# Altium footprint library footprint_hall_crossboard_1_1_library.PcbLib: 95 footprints (part 1 of 7)
Each footprint in its own frame and in the unit in brackets; x right, y up, seen from the top. Pads: shape width x height; smd on the part's side, far side on the other; paste and mask are expansions set on the pad; w line width, h text height; cw(c..) or ccw(c..) is an arc to the next point about the centre after c.
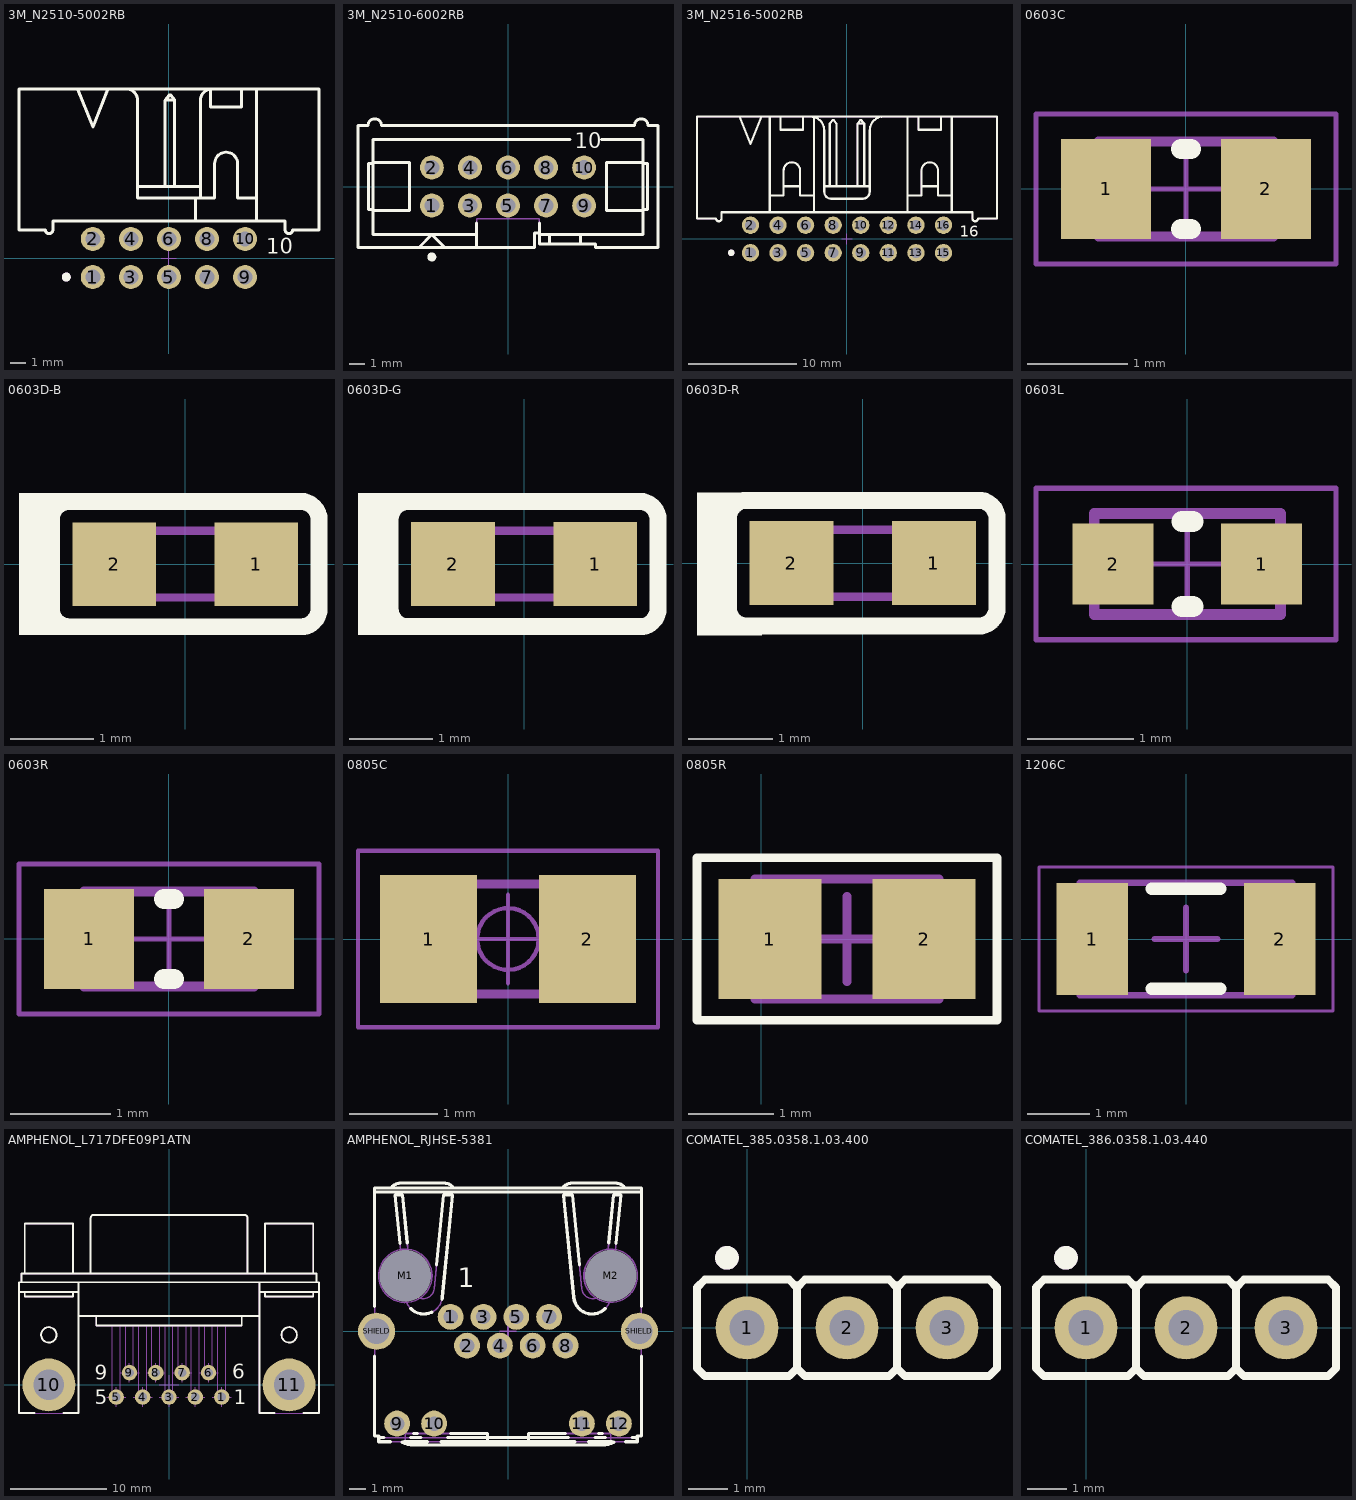
[diagram p0: the footprints below, top view; thin cyan lines are the x and y axes]

## 3M_N2510-5002RB [mm] "10 Contacts - Right Angle .100\" x .100\" Low Profile Four-Wall Header"
height 8.59
pads (10):
  round 1.6 hole 1: 1(-5.08,-1.27) 2(-5.08,1.27) 3(-2.54,-1.27) 4(-2.54,1.27) 5(0,-1.27) 6(0,1.27) 7(2.54,-1.27) 8(2.54,1.27) 9(5.08,-1.27) 10(5.08,1.27)
Top Overlay:
  circle w0.3: c-6.85,-1.27 r0.15
  lines w0.2: -6.093,11.28 -5.077,8.74 -4.061,11.28 ; -2.854,11.28 cw(c-2.854,10.518) -2.092,10.518 -2.092,4.015 2.099,4.015 2.099,10.518 ; -2.092,4.76 2.092,4.76 ; -0.249,4.76 -0.249,10.526 0.012,10.86 0.125,10.86 0.38,10.534 -0.243,10.534 ; 0.38,4.76 0.38,10.526 ; 1.781,2.466 1.781,4.015 3.051,4.015 3.051,6.301 cw(c3.813,6.301) 4.575,6.301 4.575,4.015 5.845,4.015 ; 2.099,10.518 cw(c2.861,10.518) 2.772,11.274 ; 2.772,11.28 2.772,10.06 4.855,10.06 4.855,11.28 ; 5.845,2.466 5.845,11.28 ; -10.004,1.882 -8.252,1.882 ccw(c-7.998,1.882) -7.744,1.882 -7.744,2.466 7.75,2.466 7.75,1.882 ccw(c8.004,1.882) 8.258,1.882 10.011,1.882 10.011,11.28 -10.004,11.28 -10.004,1.882
  text "10" at 6.5,0.3 h1.02
Mechanical 14:
  circle w0.3: c-6.85,-1.27 r0.15
  lines w0.1: -6.093,11.28 -5.077,8.74 -4.061,11.28 ; -2.854,11.28 cw(c-2.854,10.518) -2.092,10.518 -2.092,4.015 2.099,4.015 2.099,10.518 ; -2.092,4.76 2.092,4.76 ; -0.249,4.76 -0.249,10.526 0.012,10.86 0.125,10.86 0.38,10.534 -0.243,10.534 ; 0.38,4.76 0.38,10.526 ; 1.781,2.466 1.781,4.015 3.051,4.015 3.051,6.301 cw(c3.813,6.301) 4.575,6.301 4.575,4.015 5.845,4.015 ; 2.099,10.518 cw(c2.861,10.518) 2.772,11.274 ; 2.772,11.28 2.772,10.06 4.855,10.06 4.855,11.28 ; 5.845,2.466 5.845,11.28 ; -10.004,1.882 -8.252,1.882 ccw(c-7.998,1.882) -7.744,1.882 -7.744,2.466 7.75,2.466 7.75,1.882 ccw(c8.004,1.882) 8.258,1.882 10.011,1.882 10.011,11.28 -10.004,11.28 -10.004,1.882
  text "10" at 6.5,0.3 h1.02
Mechanical 15:
  lines w0.05: -0.5,0 0.5,0 ; 0,-0.5 0,0.5
3D body "3M_N2510-5002RB.stp": height 8.64, standoff -3.98, extent -10.004,-1.587 10.011,11.267

## 3M_N2510-6002RB [mm] "10 Contacts - Straight .100\" x .100\" Low Profile Four-Wall Header"
height 10.03
pads (10):
  round 1.6 hole 1: 1(-5.08,-1.27) 2(-5.08,1.27) 3(-2.54,-1.27) 4(-2.54,1.27) 5(0,-1.27) 6(0,1.27) 7(2.54,-1.27) 8(2.54,1.27) 9(5.08,-1.27) 10(5.08,1.27)
Top Overlay:
  circle w0.3: c-5.08,-4.699 r0.15
  lines w0.2: -8.992,-1.603 -6.579,-1.603 -6.579,1.603 -8.992,1.603 ; -8.992,-1.524 -9.296,-1.524 -9.296,1.524 -8.992,1.524 ; -5.944,-4.064 -5.08,-3.2 -4.216,-4.064 ; -2.096,-4.064 -2.096,-2.438 ; -2.096,-3.2 -8.992,-3.2 -8.992,3.15 4.128,3.15 ; 2.095,-3.2 8.992,-3.2 8.992,3.15 6.223,3.15 ; 2.095,-3.102 1.778,-3.102 1.778,-4.064 -10.008,-4.064 -10.008,4.064 -9.347,4.064 cw(c-8.89,4.064) -8.433,4.064 8.433,4.064 cw(c8.89,4.064) 9.347,4.064 10.008,4.064 10.008,-4.064 5.842,-4.064 5.842,-3.835 2.095,-3.835 2.095,-2.438 ; 2.769,-3.835 2.769,-3.2 ; 4.851,-3.835 4.851,-3.2 ; 8.992,-1.603 6.579,-1.603 6.579,1.603 8.992,1.603 ; 8.992,-1.524 9.296,-1.524 9.296,1.524 8.992,1.524
  text "10" at 4.445,2.54 h1.02
Mechanical 14:
  lines w0.1: -8.992,-1.603 -6.579,-1.603 -6.579,1.603 -8.992,1.603 ; -8.992,-1.524 -9.296,-1.524 -9.296,1.524 -8.992,1.524 ; -5.944,-4.064 -5.08,-3.2 -4.216,-4.064 ; -2.096,-4.064 -2.096,-2.159 2.095,-2.159 2.095,-3.835 5.842,-3.835 5.842,-4.064 10.008,-4.064 10.008,4.064 9.347,4.064 ccw(c8.89,4.064) 8.433,4.064 -8.433,4.064 ccw(c-8.89,4.064) -9.347,4.064 -10.008,4.064 -10.008,-4.064 1.778,-4.064 1.778,-3.102 2.095,-3.102 ; -2.096,-3.2 -8.992,-3.2 -8.992,3.15 4.128,3.15 ; 2.095,-3.2 8.992,-3.2 8.992,3.15 6.223,3.15 ; 2.769,-3.835 2.769,-3.2 ; 4.851,-3.835 4.851,-3.2 ; 8.992,-1.603 6.579,-1.603 6.579,1.603 8.992,1.603 ; 8.992,-1.524 9.296,-1.524 9.296,1.524 8.992,1.524
  text "10" at 4.445,2.54 h1.02
3D body "3M_N2510-6002RB.stp": height 9.65, standoff -2.59, extent -10.008,-4.064 10.008,4.572

## 3M_N2516-5002RB [mm] "16 Contacts - Right Angle .100\" x .100\" Low Profile Four-Wall Header"
height 8.59
pads (16):
  round 1.6 hole 1: 1(-8.89,-1.27) 2(-8.89,1.27) 3(-6.35,-1.27) 4(-6.35,1.27) 5(-3.81,-1.27) 6(-3.81,1.27) 7(-1.27,-1.27) 8(-1.27,1.27) 9(1.27,-1.27) 10(1.27,1.27) 11(3.81,-1.27) 12(3.81,1.27) 13(6.35,-1.27) 14(6.35,1.27) 15(8.89,-1.27) 16(8.89,1.27)
Top Overlay:
  circle w0.3: c-10.66,-1.27 r0.15
  lines w0.2: -9.903,11.28 -8.887,8.74 -7.871,11.28 ; -7.109,2.466 -7.109,11.28 ; -7.109,4.015 -5.839,4.015 -5.839,6.301 cw(c-5.077,6.301) -4.315,6.301 -4.315,4.015 -3.045,4.015 ; -6.118,11.28 -6.118,10.06 -4.035,10.06 -4.035,11.28 ; -5.839,4.854 -4.315,4.853 ; -3.362,11.28 cw(c-3.362,10.01) -2.092,10.01 -2.092,4.345 ccw(c-1.457,4.345) -1.457,3.71 ; -3.045,2.466 -3.045,11.239 ; -2.092,4.853 2.099,4.853 ; -1.584,4.853 -1.584,10.619 -1.323,10.954 -1.21,10.954 -0.956,10.628 -0.956,4.853 ; -1.457,3.71 1.464,3.71 ; 0.956,4.853 0.962,10.628 ; 1.464,3.71 ccw(c1.464,4.345) 2.099,4.345 2.099,10.01 ; 1.584,4.853 1.584,10.619 ; 2.099,10.01 cw(c3.369,10.01) 3.369,11.28 ; 5.591,2.466 5.591,11.28 ; 5.591,4.015 6.861,4.015 6.861,6.301 cw(c7.623,6.301) 8.385,6.301 8.385,4.015 9.655,4.015 ; 6.582,11.28 6.582,10.06 8.665,10.06 8.665,11.28 ; 6.861,4.853 8.385,4.853 ; 9.655,2.466 9.655,11.28 ; 0.962,10.628 1.217,10.954 1.33,10.954 1.584,10.619 ; 0.962,10.628 1.584,10.619 ; -13.814,1.882 -13.814,11.28 13.821,11.28 13.821,1.882 12.068,1.882 cw(c11.814,1.882) 11.56,1.882 11.56,2.466 -11.554,2.466 -11.554,1.882 cw(c-11.808,1.882) -12.062,1.882 -13.814,1.882
  text "16" at 10.375,0.207 h1.02
Mechanical 14:
  circle w0.3: c-10.66,-1.27 r0.15
  lines w0.1: -9.903,11.28 -8.887,8.74 -7.871,11.28 ; -7.109,2.466 -7.109,11.28 ; -7.109,4.015 -5.839,4.015 -5.839,6.301 cw(c-5.077,6.301) -4.315,6.301 -4.315,4.015 -3.045,4.015 ; -6.118,11.28 -6.118,10.06 -4.035,10.06 -4.035,11.28 ; -5.839,4.854 -4.315,4.853 ; -3.362,11.28 cw(c-3.362,10.01) -2.092,10.01 -2.092,4.345 ccw(c-1.457,4.345) -1.457,3.71 ; -3.045,2.466 -3.045,11.239 ; -2.092,4.853 2.099,4.853 ; -1.584,4.853 -1.584,10.619 -1.323,10.954 -1.21,10.954 -0.956,10.628 -0.956,4.853 ; -1.457,3.71 1.464,3.71 ; 0.956,4.853 0.962,10.628 ; 1.464,3.71 ccw(c1.464,4.345) 2.099,4.345 2.099,10.01 ; 1.584,4.853 1.584,10.619 ; 2.099,10.01 cw(c3.369,10.01) 3.369,11.28 ; 5.591,2.466 5.591,11.28 ; 5.591,4.015 6.861,4.015 6.861,6.301 cw(c7.623,6.301) 8.385,6.301 8.385,4.015 9.655,4.015 ; 6.582,11.28 6.582,10.06 8.665,10.06 8.665,11.28 ; 6.861,4.853 8.385,4.853 ; 9.655,2.466 9.655,11.28 ; 0.962,10.628 1.217,10.954 1.33,10.954 1.584,10.619 ; 0.962,10.628 1.584,10.619 ; -13.814,1.882 -13.814,11.28 13.821,11.28 13.821,1.882 12.068,1.882 cw(c11.814,1.882) 11.56,1.882 11.56,2.466 -11.554,2.466 -11.554,1.882 cw(c-11.808,1.882) -12.062,1.882 -13.814,1.882
  text "16" at 10.375,0.207 h1.02
Mechanical 15:
  lines w0.05: -0.5,0 0.5,0 ; 0,-0.5 0,0.5
3D body "3M_N2516-5002RB.stp": height 8.64, standoff -3.98, extent -13.814,-1.587 13.821,11.267

## 0603C [mm] "Chip Capacitor, Body 1.6x0.8mm, Height 1.0mm, IPC Medium Density"
height 1
pads (2):
  rect 0.9x1 smd: 1(-0.8,0) 2(0.8,0)
Top Overlay:
  lines w0.2: -0.05,-0.4 0.05,-0.4 ; -0.05,0.4 0.05,0.4
Mechanical 13:
  lines w0.1: -0.875,-0.475 0.875,-0.475 0.875,0.475 -0.875,0.475 -0.875,-0.475
Mechanical 15:
  lines w0.05: -0.475,0 0.475,0 ; 0,-0.475 0,0.475 ; -1.5,-0.75 1.5,-0.75 1.5,0.75 -1.5,0.75 -1.5,-0.75
3D body: height 1, standoff 0, extent 0.525,-0.475 0.875,0.475
3D body: height 1, standoff 0, extent -0.875,-0.475 -0.525,0.475
3D body: height 1, standoff 0, extent -0.525,-0.475 0.525,0.475

## 0603D-B [mm] "LED, SMT, Body 1.6 x 0.8 mm, 0.25mm Thickness"
height 0.25
pads (2):
  rect 1x1 smd paste+0 mask+0: 1(0.85,0) 2(-0.85,0)
Top Overlay:
  rectangle: -1.797,-0.849 -1.213,-0.684
  rectangle: -1.988,-0.849 -1.531,0.852
  rectangle: -1.797,0.667 -1.147,0.852
  lines w0.203: -1.602,-0.533 ccw(c-1.386,-0.533) -1.386,-0.749 1.386,-0.749 ccw(c1.386,-0.533) 1.602,-0.533 1.602,0.533 ccw(c1.386,0.533) 1.386,0.749 -1.386,0.749 ccw(c-1.386,0.533) -1.602,0.533 -1.602,-0.533
Mechanical 7:
  lines w0.1: -0.8,-0.4 0.8,-0.4 0.8,0.4 -0.8,0.4 -0.8,-0.4
3D body: height 0.25, standoff 0.1, extent -0.6,-0.4 0.6,0.4
3D body: height 0.2, standoff 0.15, extent -0.254,-0.254 0.254,0.254
3D body: height 0.1, standoff 0, extent -0.8,-0.4 0.8,0.4

## 0603D-G [mm] "LED, SMT, Body 1.6 x 0.8 mm, 0.25mm Thickness"
height 0.25
pads (2):
  rect 1x1 smd paste+0 mask+0: 1(0.85,0) 2(-0.85,0)
Top Overlay:
  rectangle: -1.794,-0.85 -1.21,-0.685
  rectangle: -1.985,-0.85 -1.528,0.852
  rectangle: -1.794,0.666 -1.144,0.852
  lines w0.203: -1.602,-0.533 ccw(c-1.386,-0.533) -1.386,-0.749 1.386,-0.749 ccw(c1.386,-0.533) 1.602,-0.533 1.602,0.533 ccw(c1.386,0.533) 1.386,0.749 -1.386,0.749 ccw(c-1.386,0.533) -1.602,0.533 -1.602,-0.533
Mechanical 7:
  lines w0.1: -0.8,-0.4 0.8,-0.4 0.8,0.4 -0.8,0.4 -0.8,-0.4
3D body: height 0.25, standoff 0.1, extent -0.6,-0.4 0.6,0.4
3D body: height 0.2, standoff 0.15, extent -0.254,-0.254 0.254,0.254
3D body: height 0.1, standoff 0, extent -0.8,-0.4 0.8,0.4

## 0603D-R [mm] "LED, SMT, Body 1.6 x 0.8 mm, 0.25mm Thickness"
height 0.25
pads (2):
  rect 1x1 smd paste+0 mask+0: 1(0.85,0) 2(-0.85,0)
Top Overlay:
  rectangle: -1.785,0.656 -1.134,0.841
  rectangle: -1.975,-0.861 -1.518,0.841
  rectangle: -1.785,-0.861 -1.2,-0.696
  lines w0.203: -1.602,-0.533 ccw(c-1.386,-0.533) -1.386,-0.749 1.386,-0.749 ccw(c1.386,-0.533) 1.602,-0.533 1.602,0.533 ccw(c1.386,0.533) 1.386,0.749 -1.386,0.749 ccw(c-1.386,0.533) -1.602,0.533 -1.602,-0.533
Mechanical 7:
  lines w0.1: -0.8,-0.4 -0.8,0.4 0.8,0.4 0.8,-0.4 -0.8,-0.4
3D body: height 0.1, standoff 0, extent -0.8,-0.4 0.8,0.4
3D body: height 0.2, standoff 0.15, extent -0.254,-0.254 0.254,0.254
3D body: height 0.25, standoff 0.1, extent -0.6,-0.4 0.6,0.4

## 0603L [mil] "Bead 0603L"
height 39.37
pads (2):
  rect 30x30 smd: 1(27.5,0) 2(-27.5,0)
Top Overlay:
  lines w7.87: -1.97,-15.74 1.97,-15.74 -1.97,-15.75 ; -1.97,15.75 1.97,15.75 -1.97,15.75
Mechanical 13:
  lines w3.94: -34.45,-18.7 -34.45,18.7 34.45,18.7 34.45,-18.7 -34.45,-18.7
Mechanical 15:
  lines w1.97: -18.7,0 18.7,0 ; 0,-18.7 0,18.7 ; -56,-28 55,-28 55,28 -56,28 -56,-28
3D body: height 23.62, standoff 0, extent -20.67,-18.7 20.67,18.7
3D body: height 23.62, standoff 0, extent -34.45,-18.7 -20.67,18.7
3D body: height 23.62, standoff 0, extent 20.67,-18.7 34.45,18.7

## 0603R [mm] "Chip Resistor, Body 1.6x0.8mm, IPC Medium Density"
height 0.6
pads (2):
  rect 0.9x1 smd: 1(-0.8,0) 2(0.8,0)
Top Overlay:
  lines w0.2: -0.05,-0.4 0.05,-0.4 ; -0.05,0.4 0.05,0.4
Mechanical 13:
  lines w0.1: -0.85,-0.475 -0.85,0.475 0.85,0.475 0.85,-0.475 -0.85,-0.475
Mechanical 15:
  lines w0.05: -0.475,0 0.475,0 ; 0,-0.475 0,0.475 ; -1.5,-0.75 -1.5,0.75 1.5,0.75 1.5,-0.75 -1.5,-0.75
3D body: height 0.6, standoff 0, extent 0.581,-0.474 0.85,0.475
3D body: height 0.6, standoff 0, extent -0.58,-0.474 0.581,0.475
3D body: height 0.6, standoff 0, extent -0.849,-0.474 -0.58,0.475

## 0805C [mm] "Chip Capacitor, Body 2.0x1.25mm, IPC Medium Density"
height 0.9
pads (2):
  rect 1.1x1.45 smd: 1(-0.9,0) 2(0.9,0)
Mechanical 14:
  lines w0.1: -1,-0.625 -1,0.625 1,0.625 1,-0.625 -1,-0.625
Mechanical 15:
  circle w0.05: c0,0 r0.35
  lines w0.05: -0.5,0 0.5,0 ; 0,-0.5 0,0.5 ; -1.7,-1 -1.7,1 1.7,1 1.7,-1 -1.7,-1
3D body "CAPC2012X90N.stp": height 0.9, standoff 0, extent -1.05,-0.675 1.05,0.675

## 0805R [mm]
pads (2):
  rect 1.2x1.4 smd: 1(0.102,0.002) 2(1.902,0.002)
Top Overlay:
  lines w0.1: -0.748,-0.948 -0.748,0.952 2.752,0.952 2.752,-0.948 -0.748,-0.948
Mechanical 13:
  lines w0.1: -0.073,-0.698 2.077,-0.698 2.077,0.702 -0.073,0.702 -0.073,-0.698
Mechanical 15:
  lines w0.1: 0.502,0.002 1.502,0.002 ; 1.002,-0.498 1.002,0.502
3D body "RES0805.STEP": height 0.51, standoff 0, extent 0,-0.627 2.004,0.627

## 1206C [mm] "Chip Capacitor, Body 3.2x1.6mm, Height 1mm, IPC Medium Density"
height 1
pads (2):
  rect 1.15x1.8 smd: 1(-1.5,0) 2(1.5,0)
Top Overlay:
  lines w0.2: -0.55,-0.8 0.55,-0.8 ; -0.55,0.8 0.55,0.8
Mechanical 13:
  lines w0.1: -1.7,-0.9 -1.7,0.9 1.7,0.9 1.7,-0.9 -1.7,-0.9
Mechanical 15:
  lines w0.05: -2.35,-1.15 -2.35,1.15 2.35,1.15 2.35,-1.15 -2.35,-1.15
  lines w0.1: -0.5,0 0.5,0 ; 0,-0.5 0,0.5
3D body: height 1, standoff 0, extent -1.2,-0.9 1.2,0.9
3D body: height 1, standoff 0, extent -1.7,-0.9 -1.2,0.9
3D body: height 1, standoff 0, extent 1.2,-0.9 1.7,0.9

## AMPHENOL_L717DFE09P1ATN [mm] "Right Angled D-Sub 9 Male Contacts with Metal Bracket and Front Female Screwlock (UNC4-40)"
height 13.4
pads (11):
  round 1.6 hole 0.9: 1(5.48,-1.27) 2(2.74,-1.27) 3(0,-1.27) 4(-2.74,-1.27) 5(-5.48,-1.27) 6(4.11,1.27) 7(1.37,1.27) 8(-1.37,1.27) 9(-4.11,1.27)
  round 5.5 hole 3.2: 10(-12.495,0) 11(12.495,0)
Top Overlay:
  circle w0.2: c-12.5,5.2 r0.8
  circle w0.2: c12.5,5.2 r0.8
  lines w0.2: -15.35,10.67 -15.35,11.57 15.35,11.57 15.35,10.67 ; -15,9.67 -15,9.17 -10,9.17 -10,9.67 ; -15,11.57 -15,16.77 -10,16.77 -10,11.57 ; -14,-2.93 -15.6,-2.93 -15.6,10.67 15.6,10.67 15.6,-2.93 14,-2.93 ; -11,-2.93 -9.4,-2.93 -9.4,10.67 ; -9.539,9.67 -15.6,9.67 -9.4,9.67 ; -9.4,7.17 9.4,7.17 ; -8.142,11.57 -8.142,17.37 cw(c-7.842,17.37) -7.842,17.67 7.861,17.67 cw(c7.861,17.37) 8.161,17.37 8.161,11.57 ; -7.57,7.17 -7.57,6.17 7.57,6.17 7.57,7.17 ; 9.4,9.67 15.6,9.67 ; 9.4,10.67 9.4,-2.93 11,-2.93 ; 10,9.67 10,9.17 15,9.17 15,9.67 ; 10,11.57 10,16.77 15,16.77 15,11.57
  text "6" at 6.604,0.635 h1.5
  text "5" at -7.747,-2.032 h1.5
  text "1" at 6.731,-2.032 h1.5
  text "9" at -7.747,0.508 h1.5
Mechanical 8:
  lines w0.1: -13.5,0 -12.5,0 ; -12.5,-1 -12.5,0 ; -12.5,1 -12.5,0 ; -11.5,0 -12.5,0 ; -6.48,-1.27 -5.48,-1.27 ; -5.48,-2.27 -5.48,-1.27 ; -5.48,-0.27 -5.48,-1.27 ; -5.11,1.27 -4.11,1.27 ; -4.48,-1.27 -5.48,-1.27 ; -4.11,0.27 -4.11,1.27 ; -4.11,2.27 -4.11,1.27 ; -3.74,-1.27 -2.74,-1.27 ; -3.11,1.27 -4.11,1.27 ; -2.74,-2.27 -2.74,-1.27 ; -2.74,-0.27 -2.74,-1.27 ; -2.37,1.27 -1.37,1.27 ; -1.74,-1.27 -2.74,-1.27 ; -1.37,0.27 -1.37,1.27 ; -1.37,2.27 -1.37,1.27 ; -1,-1.27 0,-1.27 ; -1,0 0,0 ; -0.37,1.27 -1.37,1.27 ; 0,-2.27 0,-1.27 ; 0,-1 0,0 ; 0,-0.27 0,-1.27 ; 0,1 0,0 ; 0.37,1.27 1.37,1.27 ; 1,-1.27 0,-1.27 ; 1,0 0,0 ; 1.37,0.27 1.37,1.27 ; 1.37,2.27 1.37,1.27 ; 1.74,-1.27 2.74,-1.27 ; 2.37,1.27 1.37,1.27 ; 2.74,-2.27 2.74,-1.27 ; 2.74,-0.27 2.74,-1.27 ; 3.11,1.27 4.11,1.27 ; 3.74,-1.27 2.74,-1.27 ; 4.11,0.27 4.11,1.27 ; 4.11,2.27 4.11,1.27 ; 4.48,-1.27 5.48,-1.27 ; 5.11,1.27 4.11,1.27 ; 5.48,-2.27 5.48,-1.27 ; 5.48,-0.27 5.48,-1.27 ; 6.48,-1.27 5.48,-1.27 ; 11.5,0 12.5,0 ; 12.5,-1 12.5,0 ; 12.5,1 12.5,0 ; 13.5,0 12.5,0
Mechanical 14:
  circle w0.1: c-12.5,0 r1.6
  circle w0.1: c-12.5,5.2 r0.8
  circle w0.1: c12.5,5.2 r0.8
  circle w0.1: c12.5,0 r1.6
  lines w0.1: -15.35,10.67 -15.35,11.57 15.35,11.57 15.35,10.67 ; -15,9.67 -15,9.17 -10,9.17 -10,9.67 ; -15,11.57 -15,16.77 -10,16.77 -10,11.57 ; -9.539,9.67 -15.6,9.67 -9.4,9.67 ; -9.4,7.17 9.4,7.17 ; -9.4,10.67 -9.4,-2.93 -15.6,-2.93 -15.6,10.67 15.6,10.67 15.6,-2.93 9.4,-2.93 9.4,10.67 ; -8.142,11.57 -8.142,17.37 cw(c-7.842,17.37) -7.842,17.67 7.861,17.67 cw(c7.861,17.37) 8.161,17.37 8.161,11.57 ; -7.57,7.17 -7.57,6.17 7.57,6.17 7.57,7.17 ; -5.88,6.17 -5.88,-1.27 ccw(c-5.48,-1.27) -5.08,-1.27 -5.08,6.17 ; -4.51,6.17 -4.51,1.27 ccw(c-4.11,1.27) -3.71,1.27 -3.71,6.17 ; -3.14,6.17 -3.14,-1.27 ccw(c-2.74,-1.27) -2.34,-1.27 -2.34,6.17 ; -1.77,6.17 -1.77,1.27 ccw(c-1.37,1.27) -0.97,1.27 -0.97,6.17 ; -0.4,6.17 -0.4,-1.27 ccw(c0,-1.27) 0.4,-1.27 0.4,6.17 ; 0.97,6.17 0.97,1.27 ccw(c1.37,1.27) 1.77,1.27 1.77,6.17 ; 2.34,6.17 2.34,-1.27 ccw(c2.74,-1.27) 3.14,-1.27 3.14,6.17 ; 3.71,6.17 3.71,1.27 ccw(c4.11,1.27) 4.51,1.27 4.51,6.17 ; 5.08,6.17 5.08,-1.27 ccw(c5.48,-1.27) 5.88,-1.27 5.88,6.17 ; 9.4,9.67 15.6,9.67 ; 10,9.67 10,9.17 15,9.17 15,9.67 ; 10,11.57 10,16.77 15,16.77 15,11.57
3D body "AMPHENOL_L717DFE09P1ATN.stp": height 13.45, standoff -3.95, extent -15.6,-2.93 15.6,17.67

## AMPHENOL_RJHSE-5381 [mm] "1 Port, 8 Positions, CAT5 RJ45 Modular Connector With Yellow And Green LEDs"
height 13.46
pads (16):
  round 1.6 hole 0.9: 1(-3.554,0.886) 2(-2.538,-0.894) 3(-1.522,0.886) 4(-0.506,-0.894) 5(0.51,0.886) 6(1.526,-0.894) 7(2.542,0.886) 8(3.558,-0.894) 9(-6.862,-5.714) 10(-4.572,-5.714) 11(4.568,-5.714) 12(6.858,-5.714)
  round 1 hole 3.2 unplated mask+1.1: M1(-6.352,3.426) M2(6.348,3.426)
  round 2.3 hole 1.6: SHIELD(-8.132,-0.004) SHIELD(8.128,-0.004)
Top Overlay:
  lines w0.2: -8.257,-1.549 -8.257,-6.478 -8.003,-6.478 -8.003,-6.834 -7.293,-6.834 ; -8.257,1.541 -8.257,8.863 8.253,8.863 8.253,1.541 ; -8.257,8.609 8.253,8.609 ; -8.003,-6.58 -7.693,-6.58 ; -7.242,8.863 cw(c-6.621,8.379) -6.621,9.166 -3.979,9.166 cw(c-3.979,8.379) -3.358,8.863 ; -6.688,5.449 -6.987,8.432 -6.53,8.432 -6.233,5.473 ; -6.54,-6.87 ccw(c-5.844,-5.507) -5.844,-7.037 5.84,-7.037 ccw(c5.84,-5.507) 6.536,-6.87 ; -6.431,-6.834 -5.003,-6.834 ; -6.031,-6.58 -5.403,-6.58 ; -6.022,1.403 ccw(c-5.209,2.214) -4.719,1.176 ; -5.83,-6.326 -5.604,-6.326 ; -4.422,4.118 -3.99,8.432 -3.431,8.432 -4.066,2.1 cw(c-5.209,2.214) -4.089,1.961 ; -4.141,-6.834 4.137,-6.834 ; -3.741,-6.58 3.737,-6.58 ; -3.54,-6.326 -1.272,-6.326 -1.272,-6.834 ; 1.268,-6.834 1.268,-6.326 3.536,-6.326 ; 3.366,8.863 cw(c3.986,8.379) 3.986,9.166 6.628,9.166 cw(c6.628,8.379) 7.249,8.863 ; 4.418,4.118 3.986,8.432 3.427,8.432 4.062,2.1 ccw(c5.205,2.214) 6.018,1.403 ; 4.999,-6.834 6.427,-6.834 ; 5.399,-6.58 6.027,-6.58 ; 5.6,-6.326 5.826,-6.326 ; 6.229,5.473 6.526,8.432 6.983,8.432 6.684,5.449 ; 7.289,-6.834 7.999,-6.834 7.999,-6.478 8.253,-6.478 8.253,-1.549 ; 7.689,-6.58 7.999,-6.58
  text "1" at -3.12,2.725 h1.2
Mechanical 8:
  circle w0.1: c6.348,3.426 r1.65
  circle w0.1: c-6.352,3.426 r1.65
  circle w0.1: c8.128,-0.004 r0.8
  circle w0.1: c-8.132,-0.004 r0.8
  circle w0.1: c3.558,-0.894 r0.45
  circle w0.1: c1.526,-0.894 r0.45
  circle w0.1: c-0.506,-0.894 r0.45
  circle w0.1: c-2.538,-0.894 r0.45
  circle w0.1: c-3.554,0.886 r0.45
  circle w0.1: c-1.522,0.886 r0.45
  circle w0.1: c0.51,0.886 r0.45
  circle w0.1: c2.542,0.886 r0.45
  lines w0.1: -8.632,-0.004 -8.132,-0.004 ; -8.132,-0.504 -8.132,-0.004 ; -8.132,0.496 -8.132,-0.004 ; -7.632,-0.004 -8.132,-0.004 ; -7.362,-5.714 -6.862,-5.714 ; -6.862,-6.214 -6.862,-5.714 ; -6.862,-5.214 -6.862,-5.714 ; -6.852,3.426 -6.352,3.426 ; -6.362,-5.714 -6.862,-5.714 ; -6.352,2.926 -6.352,3.426 ; -6.352,3.926 -6.352,3.426 ; -5.852,3.426 -6.352,3.426 ; -5.072,-5.714 -4.572,-5.714 ; -4.572,-6.214 -4.572,-5.714 ; -4.572,-5.214 -4.572,-5.714 ; -4.072,-5.714 -4.572,-5.714 ; -4.054,0.886 -3.554,0.886 ; -3.554,0.386 -3.554,0.886 ; -3.554,1.386 -3.554,0.886 ; -3.054,0.886 -3.554,0.886 ; -3.038,-0.894 -2.538,-0.894 ; -2.538,-1.394 -2.538,-0.894 ; -2.538,-0.394 -2.538,-0.894 ; -2.038,-0.894 -2.538,-0.894 ; -2.022,0.886 -1.522,0.886 ; -1.522,0.386 -1.522,0.886 ; -1.522,1.386 -1.522,0.886 ; -1.022,0.886 -1.522,0.886 ; -1.006,-0.894 -0.506,-0.894 ; -0.506,-1.394 -0.506,-0.894 ; -0.506,-0.394 -0.506,-0.894 ; -0.5,0 0,0 ; -0.006,-0.894 -0.506,-0.894 ; 0,-0.5 0,0 ; 0,0.5 0,0 ; 0.01,0.886 0.51,0.886 ; 0.5,0 0,0 ; 0.51,0.386 0.51,0.886 ; 0.51,1.386 0.51,0.886 ; 1.01,0.886 0.51,0.886 ; 1.026,-0.894 1.526,-0.894 ; 1.526,-1.394 1.526,-0.894 ; 1.526,-0.394 1.526,-0.894 ; 2.026,-0.894 1.526,-0.894 ; 2.042,0.886 2.542,0.886 ; 2.542,0.386 2.542,0.886 ; 2.542,1.386 2.542,0.886 ; 3.042,0.886 2.542,0.886 ; 3.058,-0.894 3.558,-0.894 ; 3.558,-1.394 3.558,-0.894 ; 3.558,-0.394 3.558,-0.894 ; 4.058,-0.894 3.558,-0.894 ; 4.068,-5.714 4.568,-5.714 ; 4.568,-6.214 4.568,-5.714 ; 4.568,-5.214 4.568,-5.714 ; 5.068,-5.714 4.568,-5.714 ; 5.848,3.426 6.348,3.426 ; 6.348,2.926 6.348,3.426 ; 6.348,3.926 6.348,3.426 ; 6.358,-5.714 6.858,-5.714 ; 6.848,3.426 6.348,3.426 ; 6.858,-6.214 6.858,-5.714 ; 6.858,-5.214 6.858,-5.714 ; 7.358,-5.714 6.858,-5.714 ; 7.628,-0.004 8.128,-0.004 ; 8.128,-0.504 8.128,-0.004 ; 8.128,0.496 8.128,-0.004 ; 8.628,-0.004 8.128,-0.004
Mechanical 14:
  lines w0.1: -8.257,-0.408 cw(c-7.884,-0.027) -8.257,0.354 ; -8.257,8.609 8.253,8.609 ; -8.003,-6.58 7.999,-6.58 ; -7.242,8.863 cw(c-6.621,8.379) -6.621,9.166 -3.979,9.166 cw(c-3.979,8.379) -3.358,8.863 ; -6.606,-6.834 ccw(c-5.844,-5.507) -5.844,-7.037 5.84,-7.037 ccw(c5.84,-5.507) 6.602,-6.834 ; -6.352,-6.834 -6.352,-6.326 -1.272,-6.326 -1.272,-6.834 ; 1.268,-6.834 1.268,-6.326 6.348,-6.326 6.348,-6.834 ; 3.366,8.863 cw(c3.986,8.379) 3.986,9.166 6.628,9.166 cw(c6.628,8.379) 7.249,8.863 ; 8.253,-0.408 ccw(c7.88,-0.027) 8.253,0.354 ; -8.257,-6.478 -8.003,-6.478 -8.003,-6.834 7.999,-6.834 7.999,-6.478 8.253,-6.478 8.253,8.863 -8.257,8.863 -8.257,-6.478 ; -6.987,8.432 -6.352,2.1 ccw(c-5.209,2.214) -4.066,2.1 -3.431,8.432 -3.99,8.432 -4.572,2.63 cw(c-5.26,2.697) -5.948,2.63 -6.53,8.432 -6.987,8.432 ; 3.427,8.432 4.062,2.1 ccw(c5.205,2.214) 6.348,2.1 6.983,8.432 6.526,8.432 5.944,2.63 cw(c5.256,2.697) 4.568,2.63 3.986,8.432 3.427,8.432
  text "1" at -3.12,2.725 h1.2
3D body "AMPHENOL_RJHSE-5381.stp": height 15.14, standoff -3.7, extent -8.417,-7.037 8.413,9.166

## COMATEL_385.0358.1.03.400 [mm] "3 Contacts Straight Strip Header Pitch 2.54mm L=6.3mm ''Mini-Wire-Wrap''"
height 8
pads (3):
  round 1.6 hole 0.9: 1(0,0) 2(2.54,0) 3(5.08,0)
Top Overlay:
  circle w0.3: c-0.508,1.778 r0.15
  lines w0.2: -1.27,1.025 -1.07,1.225 ; -1.27,1.025 -1.27,-1.025 -1.07,-1.225 1.07,-1.225 1.27,-1.025 ; -1.27,1.025 -1.07,1.225 ; -1.07,1.225 1.07,1.225 1.27,1.025 ; 1.27,-1.025 1.27,1.025 ; 1.27,-1.025 1.47,-1.225 3.61,-1.225 3.81,-1.025 ; 1.27,1.025 1.47,1.225 3.61,1.225 3.81,1.025 ; 3.81,-1.025 3.81,1.025 ; 3.81,-1.025 4.01,-1.225 6.15,-1.225 6.35,-1.025 6.35,1.025 6.15,1.225 4.01,1.225 3.81,1.025
Mechanical 14:
  circle w0.3: c-0.508,1.778 r0.15
  lines w0.1: 1.27,-1.025 1.07,-1.225 -1.07,-1.225 -1.27,-1.025 -1.27,1.025 -1.07,1.225 1.07,1.225 1.27,1.025 ; 1.27,-1.025 1.27,1.025 ; 1.27,-1.025 1.47,-1.225 3.61,-1.225 3.81,-1.025 ; 1.27,1.025 1.47,1.225 3.61,1.225 3.81,1.025 ; 3.81,-1.025 3.81,1.025 ; 3.81,-1.025 4.01,-1.225 6.15,-1.225 6.35,-1.025 6.35,1.025 6.15,1.225 4.01,1.225 3.81,1.025
3D body "COMATEL_385.0358.1.03.400.stp": height 8, standoff -3.2, extent -1.27,-1.225 6.35,1.225

## COMATEL_386.0358.1.03.440 [mm] "3 Contacts Straight Strip Header Pitch 2.54mm L=6.3mm ''Mini-Wire-Wrap''"
height 8
pads (3):
  round 1.6 hole 0.9: 1(0,0) 2(2.54,0) 3(5.08,0)
Top Overlay:
  circle w0.3: c-0.508,1.778 r0.15
  lines w0.2: 1.27,-1.025 1.47,-1.225 3.61,-1.225 3.81,-1.025 ; 1.27,-1.025 1.27,1.025 ; 1.27,-1.025 1.07,-1.225 -1.07,-1.225 -1.27,-1.025 -1.27,1.025 -1.07,1.225 1.07,1.225 1.27,1.025 ; 1.27,1.025 1.47,1.225 3.61,1.225 3.81,1.025 ; 3.81,-1.025 4.01,-1.225 6.15,-1.225 6.35,-1.025 6.35,1.025 6.15,1.225 4.01,1.225 3.81,1.025 ; 3.81,-1.025 3.81,1.025
Mechanical 14:
  circle w0.3: c-0.508,1.778 r0.15
  lines w0.1: 1.27,-1.025 1.47,-1.225 3.61,-1.225 3.81,-1.025 ; 1.27,-1.025 1.27,1.025 ; 1.27,-1.025 1.07,-1.225 -1.07,-1.225 -1.27,-1.025 -1.27,1.025 -1.07,1.225 1.07,1.225 1.27,1.025 ; 1.27,1.025 1.47,1.225 3.61,1.225 3.81,1.025 ; 3.81,-1.025 4.01,-1.225 6.15,-1.225 6.35,-1.025 6.35,1.025 6.15,1.225 4.01,1.225 3.81,1.025 ; 3.81,-1.025 3.81,1.025
3D body "COMATEL_386.0358.1.03.440.stp": height 8, standoff -3.2, extent -1.27,-1.225 6.35,1.225